# Altium footprint library Sensor Card.PcbLib: 29 footprints (part 2 of 2)
Each footprint in its own frame and in the unit in brackets; x right, y up, seen from the top. Pads: shape width x height; smd on the part's side, far side on the other; paste and mask are expansions set on the pad; w line width, h text height; cw(c..) or ccw(c..) is an arc to the next point about the centre after c.
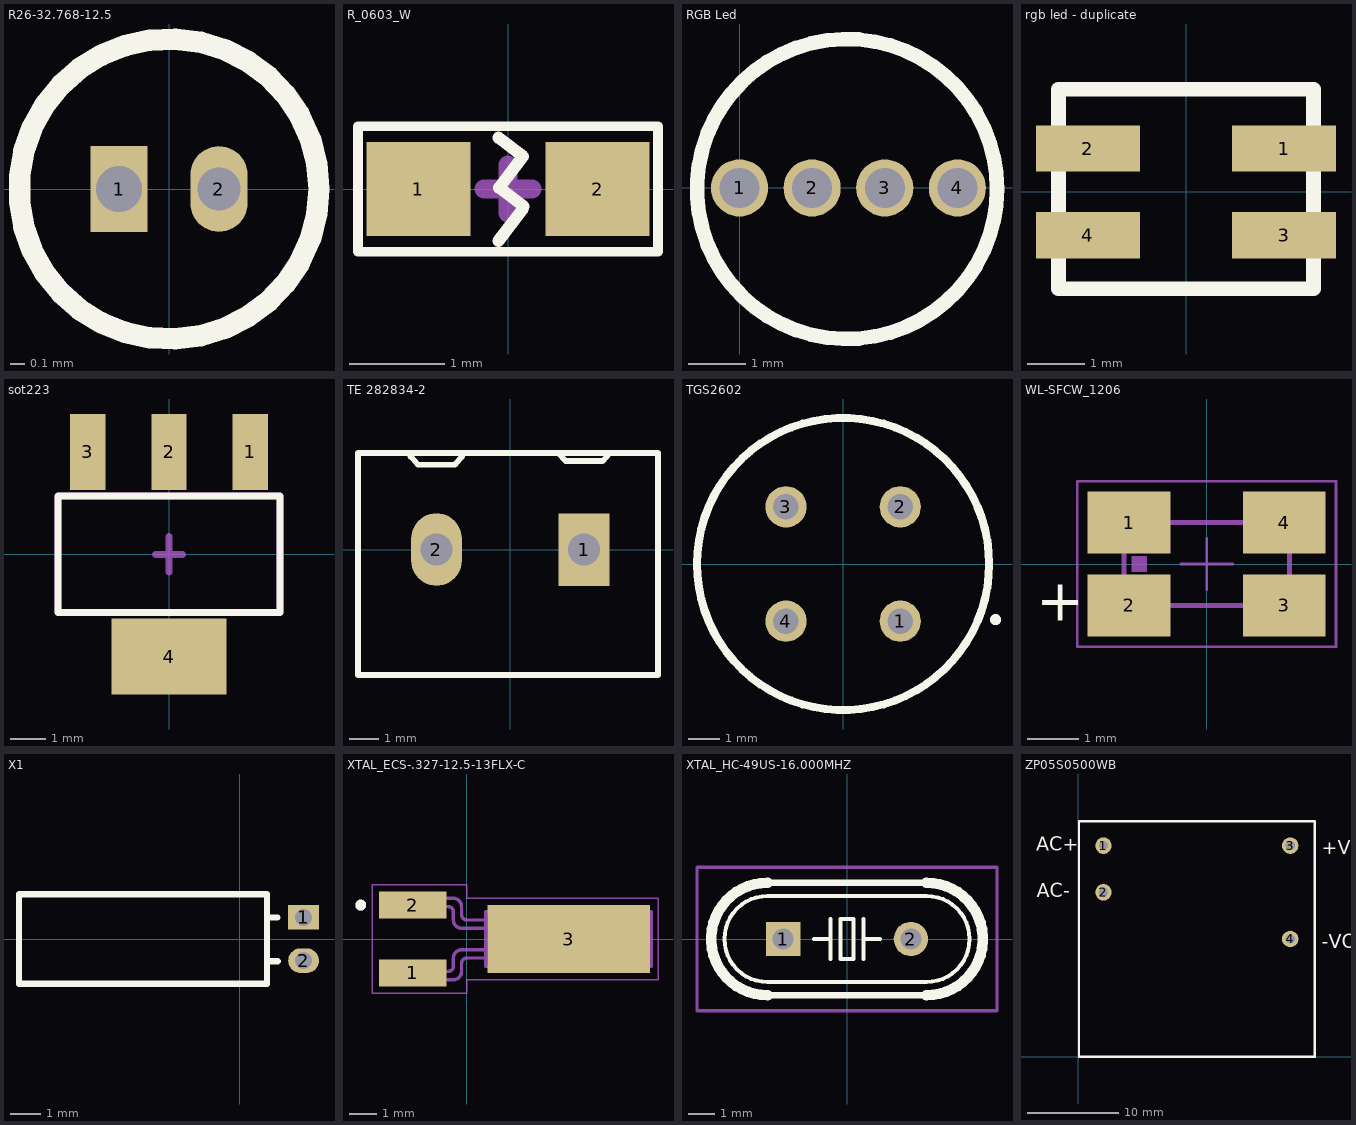
[diagram p1: the footprints below, top view; thin cyan lines are the x and y axes]

## R26-32.768-12.5 [mm]
pads (2):
  rect 0.4x0.6 hole 0.32: 1(-0.35,0)
  oval 0.4x0.6 hole 0.3: 2(0.35,0)
Top Overlay:
  circle w0.15: c0,0 r1.05

## R_0603_W [mil] "Chip Resistor, 2-Leads, Body 1.60x0.80mm, IPC Medium Density"
height 17.72
pads (2):
  rect 43x39 smd: 1(-37,0) 2(37,0)
Top Overlay:
  lines w3.94: -62,-26 -62,26 62,26 62,-26 -62,-26
  lines w5: -3.92,-21.45 5.92,-8.55 ; -3.92,21.17 6.22,13.44 -3.62,0.53 ; -3.54,0.47 6.46,-7.15
Mechanical 15:
  lines w7.87: -9.84,0 9.84,0 ; 0,-9.84 0,9.84
3D body "0603 resistor.STEP": height 17.72, standoff 0, extent -30.5,-15 32.5,16.5

## RGB Led [mm]
pads (4):
  round 1 hole 0.7: 1(0,0) 2(1.27,0) 3(2.54,0) 4(3.81,0)
Top Overlay:
  circle w0.254: c1.879,-0.019 r2.624
3D body "User Library-LED RG.STEP": height 9.43, standoff -4, extent -0.37,-2.019 4.13,1.981

## rgb led - duplicate [mm]
pads (4):
  rect 1.8x0.8 smd: 1(1.7,0.75) 2(-1.7,0.75) 3(1.7,-0.75) 4(-1.7,-0.75)
Top Overlay:
  lines w0.254: -2.21,-1.676 -2.21,1.778 2.21,1.778 2.21,1.499 2.21,-1.676 -2.21,-1.676

## sot223 [mm]
height 0.7
pads (4):
  rect 1x2.15 smd: 1(2.3,2.9) 2(0,2.9) 3(-2.3,2.9)
  rect 3.25x2.15 smd: 4(0,-2.9)
Top Overlay:
  lines w0.2: -3.15,-1.65 -3.15,1.65 3.15,1.65 3.15,-1.65 -3.15,-1.65
Mechanical 15:
  lines w0.2: -0.375,0 0.375,0 ; 0,-0.5 0,0.5 ; -3.15,-1.65 -3.15,1.65 3.15,1.65 3.15,-1.65 -3.15,-1.65
3D body "SOT223-4.step": height 1.67, standoff 0.02, extent -3.25,-3.6 3.25,3.4

## Tact SW [mm]

## TE 282834-2 [mm]
height 10
pads (2):
  rect 1.75x2.5 hole 1.1: 1(2.54,0)
  oval 1.75x2.5 hole 1.1: 2(-2.54,0)
Top Overlay:
  lines w0.2: -3.429,3.2 -3.175,2.921 -1.905,2.921 -1.651,3.2 ; 1.651,3.327 1.905,3.048 3.175,3.048 3.429,3.327 ; -5.24,-4.318 5.08,-4.318 5.08,3.327 -5.24,3.327 -5.24,-3.073 -5.24,-4.318
3D body "User Library-Terminal block 2 POS.STEP": height 10, standoff -3.05, extent -5.08,-4.327 5.08,3.173

## TGS2602 [mm]
pads (4):
  round 1.3 hole 0.8: 1(1.8,-1.8) 2(1.8,1.8) 3(-1.8,1.8) 4(-1.8,-1.8)
Top Overlay:
  circle w0.254: c0,0 r4.6
  circle w0.254: c0,0 r4.6
  circle w0.254: c4.8,-1.751 r0.046
3D body: height 8, standoff 0, extent -4.6,-4.6 4.6,4.6

## WL-SFCW_1206 [mm] "SMT Full-color Chip LED Waterclear, body 3.2x1.6mm"
height 0.7
pads (4):
  rect 1.6x1.2 smd: 1(-1.5,0.8) 2(-1.5,-0.8) 3(1.5,-0.8) 4(1.5,0.8)
Top Overlay:
  text "+" at -3.3,-1.1 h0.81
Mechanical 13:
  rectangle: -1.45,-0.15 -1.15,0.15
  lines w0.1: -1.6,-0.8 -1.6,0.8 1.6,0.8 1.6,-0.8 -1.6,-0.8
Mechanical 15:
  lines w0.05: -0.5,0 0.5,0 ; 0,-0.5 0,0.5 ; -2.5,-1.6 -2.5,1.6 2.5,1.6 2.5,-1.6 -2.5,-1.6
3D body "150120M173000.stp": height 0.7, standoff 0, extent -1.6,-0.8 1.6,0.8

## X1 [mm]
pads (2):
  rect 1x0.8 hole 0.55: 1(2.075,0.7)
  oval 1x0.8 hole 0.55: 2(2.075,-0.7)
Top Overlay:
  lines w0.2: 0.896,0.7 1.228,0.7 ; 0.906,-0.721 1.238,-0.721 ; -7.15,-1.45 0.893,-1.45 0.893,1.45 -7.15,1.45 -7.15,-1.45
3D body "crystal DT-26-1.step": height 2.2, standoff -1.8, extent -4.957,-1 2.183,1

## XTAL_ECS-.327-12.5-13FLX-C [mm]
pads (3):
  rect 2.5x1 smd: 1(-2,-1.25) 2(-2,1.25)
  rect 6x2.5 smd paste-4: 3(3.75,0)
Top Overlay:
  circle w0.2: c-3.919,1.249 r0.1
Top Paste:
  region: 5.64,-0.791 1.863,-0.791 1.863,0.79 5.64,0.79
Mechanical 13:
  circle w0.2: c-3.919,1.249 r0.1
  lines w0.127: 0.7,0.4 -0.2,0.4 cw(c-0.2,0.7) -0.5,0.7 -0.5,1 ccw(c-0.7,1) -0.7,1.2 -3.1,1.2 -3.1,1.5 -0.5,1.5 cw(c-0.5,1.2) -0.2,1.2 -0.2,0.9 ccw(c0,0.9) 0,0.7 0.7,0.7 ; 0.7,-0.7 0.7,-1 6.8,-1 6.8,1 0.7,1 0.7,-0.4 ; 0.7,-0.7 0.7,-0.4 ; 0.7,-0.7 0,-0.7 ccw(c0,-0.9) -0.2,-0.9 -0.2,-1.2 cw(c-0.5,-1.2) -0.5,-1.5 -3.1,-1.5 -3.1,-1.2 -0.7,-1.2 ccw(c-0.7,-1) -0.5,-1 -0.5,-0.7 cw(c-0.2,-0.7) -0.2,-0.4 0.7,-0.4
Mechanical 15:
  lines w0.05: -3.5,-2 0,-2 0,-1.5 7.05,-1.5 7.05,1.5 0,1.5 0,2 -3.5,2 -3.5,-2
3D body "ECS-.327-12.5-13FLX-C.STEP": height 2.1, standoff 0, extent -2.568,-1.41 6.682,1.41

## XTAL_HC-49US-16.000MHZ [mil]
height 35.04
pads (2):
  rect 52x52 hole 32: 1(-96.46,0)
  round 52 hole 32: 2(96.46,0)
Top Overlay:
  lines w6: -50,0 -25,0 ; -25,-30 -25,0 ; -25,30 -25,0 ; 25,-30 25,0 ; 25,30 25,0 ; 50,0 25,0 ; -120,-65 cw(c-120,0) -120,65 120,65 cw(c120,0) 120,-65 -120,-65 ; -10,-30 -10,30 10,30 10,-30 -10,-30
  lines w10: -120,-85 120,-85 ; -120,85 120,85
  lines w16: -120,-85 cw(c-120,0) -120,85 ; 120,-85 ccw(c120,0) 120,85
Mechanical 4:
  lines w5: -226.38,-108.27 -226.38,108.27 226.38,108.27 226.38,-108.27 -226.38,-108.27
3D body "xtalcrystal.SLDPRT": height 145.28, standoff -157.48, extent -216.85,-100 230,96.85

## ZP05S0500WB [mm]
pads (4):
  round 1.8 hole 1: 1(2.718,22.962) 2(2.718,17.882) 3(23.038,22.962) 4(23.038,12.802)
Top Overlay:
  lines w0.254: 0.051,-0.025 0.051,25.629 25.705,25.629 25.705,-0.025 0.051,-0.025
  text "+VO" at 26.492,21.996 h1.52
  text "-VO" at 26.441,11.811 h1.52
  text "AC-" at -4.547,17.348 h1.52
  text "AC+" at -4.623,22.428 h1.52
3D body: height 19.3, standoff 0.1, extent 0.178,0.127 25.578,25.502